# Altium integrated library ECS-17.1776-20-4.IntLib: 1 symbol
Pins are listed as number, name and electrical type; pins without a type are passive.

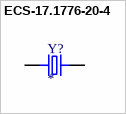
[diagram p0: symbol ECS-17.1776-20-4]

## ECS-17.1776-20-4
designator Y?
Crystals 17.1776MHz HC49S; MF: ECS International; MP: ECS-17.1776-20-4; SnapEDA_Link: https://www.snapeda.com/parts/ECS-17.1776-20-4/ECS/view-part/?ref=snap; Package: HC-49US ECS Inc.; Value: *; Check_prices: https://www.snapeda.com/parts/ECS-17.1776-20-4/ECS/view-part/?ref=eda
footprint XTAL_ECS-160-20-4X
pins: 1, 2